# EAGLE library part CP2102-GM (library CP2102-GM)
CP2102-GM, USB Controller 12Mbit/s USB 2.0, 3.3 V, 28-Pin, QFN Source: Datasheet <https://datasheet.datasheetarchive.com/originals/distributors/Datasheets_SAMA/e8061a629457dcd57bb8c8d46a00fbc0.pdf>
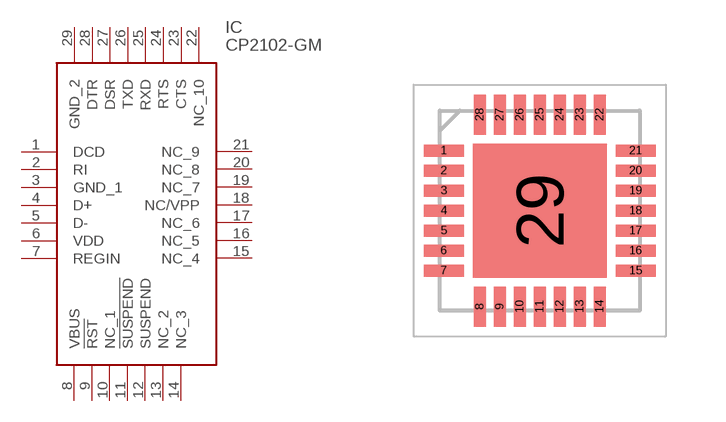
[diagram p0: symbol with the pads of QFN50P500X500X100-29N; footprint QFN50P500X500X100-29N]

Designator prefix IC

## CP2102-GM (Arrow_Part_Number: CP2102-GM; Arrow_Price-Stock: https://www.arrow.com/en/products/cp2102-gm/silicon-labs?region=nac; Description: CP2102-GM, USB Controller 12Mbit/s USB 2.0, 3.3 V, 28-Pin, QFN; Height: 1mm; Manufacturer_Name: Silicon Labs; Manufacturer_Part_Number: CP2102-GM; Mouser_Part_Number: 634-CP2102-GM; Mouser_Price-Stock: https://www.mouser.co.uk/ProductDetail/Silicon-Labs/CP2102-GM?qs=yHCtFi5ROqJvCcyR88R4Pg%3D%3D)  [QFN50P500X500X100-29N]
1  DCD
2  RI
3  GND_1
4  D+
5  D-
6  VDD
7  REGIN
8  VBUS
9  !RST
10  NC_1
11  !SUSPEND
12  SUSPEND
13  NC_2
14  NC_3
15  NC_4
16  NC_5
17  NC_6
18  NC/VPP
19  NC_7
20  NC_8
21  NC_9
22  NC_10
23  CTS
24  RTS
25  RXD
26  TXD
27  DSR
28  DTR
29  GND_2

## Footprint QFN50P500X500X100-29N (pad centres in mm)
QFN-28-8
smd 1 x 0.3: 1 -2.4,1.5; 2 -2.4,1; 3 -2.4,0.5; 4 -2.4,0; 5 -2.4,-0.5; 6 -2.4,-1; 7 -2.4,-1.5; 15 2.4,-1.5; 16 2.4,-1; 17 2.4,-0.5; 18 2.4,0; 19 2.4,0.5; 20 2.4,1; 21 2.4,1.5
smd 0.3 x 1: 8 -1.5,-2.4; 9 -1,-2.4; 10 -0.5,-2.4; 11 0,-2.4; 12 0.5,-2.4; 13 1,-2.4; 14 1.5,-2.4; 22 1.5,2.4; 23 1,2.4; 24 0.5,2.4; 25 0,2.4; 26 -0.5,2.4; 27 -1,2.4; 28 -1.5,2.4
smd 3.35 x 3.35: 29 0,0